# EAGLE library part USB_MICROB_PLUG (library Cytrill)
USB Micro-B connectors Some male, some female. Watch your step!
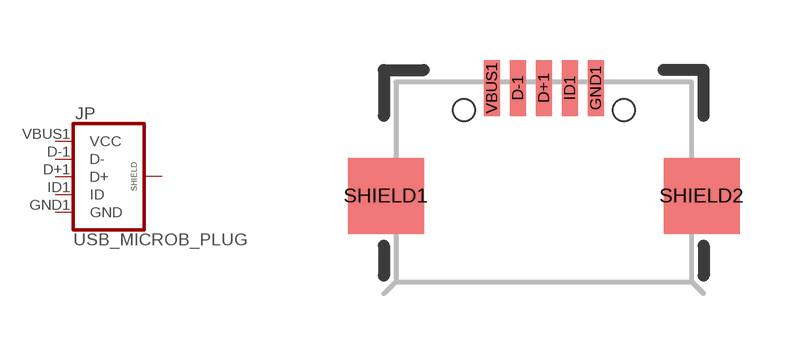
[diagram p0: symbol with the pads of USB-B-MICRO-SMD_V03; footprint USB-B-MICRO-SMD_V03]

Designator prefix JP

## USB_MICROB_PLUGCONN-11752 (PROD_ID: CONN-11752)  [USB-B-MICRO-SMD_V03]
D+1  D+
D-1  D-
GND1  GND
ID1  ID
SHIELD1  SHIELD
SHIELD2  SHIELD
VBUS1  VCC

## Footprint USB-B-MICRO-SMD_V03 (pad centres in mm)
smd 0.4 x 1.4: D+1 0,2.7; D-1 -0.65,2.7; GND1 1.3,2.7; ID1 0.65,2.7; VBUS1 -1.3,2.7
smd 1.9 x 1.9: SHIELD1 -3.95,0; SHIELD2 3.95,0
hole 0.55 at -2,2.15
hole 0.55 at 2,2.15